# Altium footprint library RR0510P-102-D.PcbLib: 2 footprints
Each footprint in its own frame and in the unit in brackets; x right, y up, seen from the top. Pads: shape width x height; smd on the part's side, far side on the other; paste and mask are expansions set on the pad; w line width, h text height; cw(c..) or ccw(c..) is an arc to the next point about the centre after c.
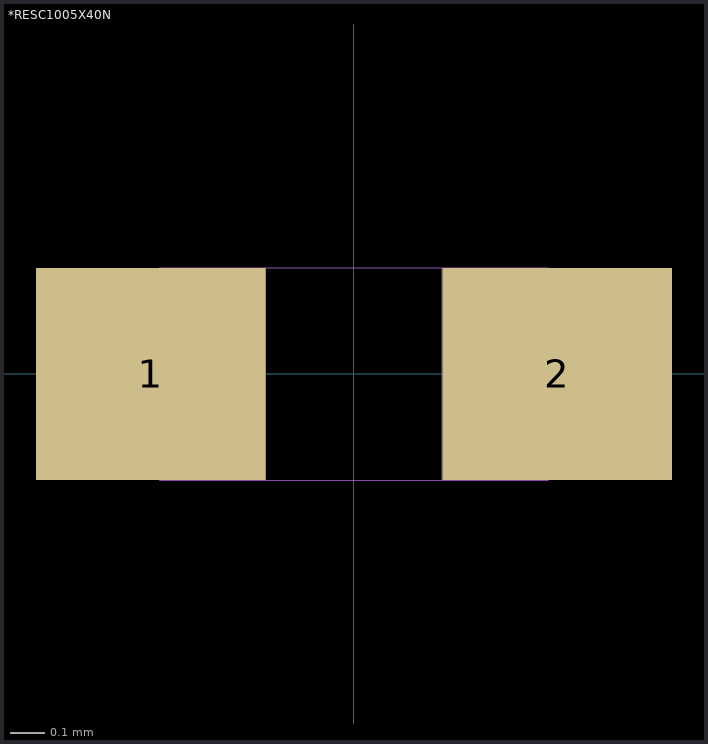
[diagram p0: the footprints below, top view; thin cyan lines are the x and y axes]

## *RESC1005X40N [mil]
pads (2):
  rect 26x24 smd: 1(-23,0) 2(23,0)
Mechanical 4:
  lines w0: -22,-12 -22,12 ; -22,-12 -10,-12 ; -22,-12 -22,12 ; -22,-12 -10,-12 ; -22,12 -10,12 ; -22,12 -10,12 ; -10,-12 10,-12 ; -10,-12 -10,12 ; -10,-12 10,-12 ; -10,-12 -10,12 ; -10,12 10,12 ; -10,12 10,12 ; 10,-12 22,-12 ; 10,-12 10,12 ; 10,-12 22,-12 ; 10,-12 10,12 ; 10,12 22,12 ; 10,12 22,12 ; 22,-12 22,12 ; 22,-12 22,12

## PCBComponent_1 [mil]